# Altium schematic symbol library M.2 M-KEY底座与金手指.SCHLIB: 2 symbols
Pins are listed as number, name and electrical type; pins without a type are passive.

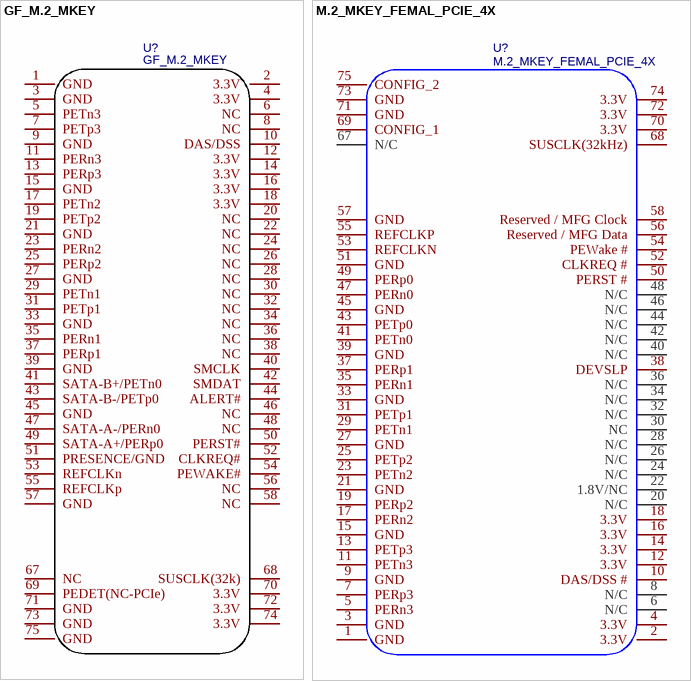
[diagram p0: symbols GF_M.2_MKEY to M.2_MKEY_FEMAL_PCIE_4X]

## GF_M.2_MKEY
designator U?
BOM_Manufacturer: SHOWNAME=F; Contributor: redgragon; BOM_Manufacturer Part: SHOWNAME=F; BOM_Supplier Part: SHOWNAME=F; BOM_Supplier: SHOWNAME=F; link: SHOWNAME=F; spicePre: U; spiceSymbolName: GF_M.2_MKEY
footprint GF_M.2_M_KEY
pins: 1 GND, 2 3.3V, 3 GND, 4 3.3V, 5 PETn3, 6 NC, 7 PETp3, 8 NC, 9 GND, 10 DAS/DSS, 11 PERn3, 12 3.3V, 13 PERp3, 14 3.3V, 15 GND, 16 3.3V, 17 PETn2, 18 3.3V, 19 PETp2, 20 NC, 21 GND, 22 NC, 23 PERn2, 24 NC, 25 PERp2, 26 NC, 27 GND, 28 NC, 29 PETn1, 30 NC, 31 PETp1, 32 NC, 33 GND, 34 NC, 35 PERn1, 36 NC, 37 PERp1, 38 NC, 39 GND, 40 SMCLK, 41 SATA-B+/PETn0, 42 SMDAT, 43 SATA-B-/PETp0, 44 ALERT#, 45 GND, 46 NC, 47 SATA-A-/PERn0, 48 NC, 49 SATA-A+/PERp0, 50 PERST#, 51 PRESENCE/GND, 52 CLKREQ#, 53 REFCLKn, 54 PEWAKE#, 55 REFCLKp, 56 NC, 57 GND, 58 NC, 67 NC, 68 SUSCLK(32k), 69 PEDET(NC-PCIe), 70 3.3V, 71 GND, 72 3.3V, 73 GND, 74 3.3V, 75 GND

## M.2_MKEY_FEMAL_PCIE_4X
designator U?
BOM_Manufacturer Part: M.2 M key fingers; Contributor: riverliu; BOM_Supplier Part: SHOWNAME=F; BOM_Supplier: SHOWNAME=F; spicePre: U; spiceSymbolName: M.2_MKEY_FEMAL_PCIE_4X
footprint M.2 母座 (%UTF8%MODELNAME=M.2 姣嶅骇)
footprint PCBComponent_1 - duplicate
pins: 1 GND, 2 3.3V, 3 GND, 4 3.3V, 5 PERn3, 6 N/C, 7 PERp3, 8 N/C, 9 GND, 10 DAS/DSS #, 11 PETn3, 12 3.3V, 13 PETp3, 14 3.3V, 15 GND, 16 3.3V, 17 PERn2, 18 3.3V, 19 PERp2, 20 N/C, 21 GND, 22 1.8V/NC, 23 PETn2, 24 N/C, 25 PETp2, 26 N/C, 27 GND, 28 N/C, 29 PETn1, 30 NC, 31 PETp1, 32 N/C, 33 GND, 34 N/C, 35 PERn1, 36 N/C, 37 PERp1, 38 DEVSLP, 39 GND, 40 N/C, 41 PETn0, 42 N/C, 43 PETp0, 44 N/C, 45 GND, 46 N/C, 47 PERn0, 48 N/C, 49 PERp0, 50 PERST #, 51 GND, 52 CLKREQ #, 53 REFCLKN, 54 PEWake #, 55 REFCLKP, 56 Reserved / MFG Data, 57 GND, 58 Reserved / MFG Clock, 67 N/C, 68 SUSCLK(32kHz), 69 CONFIG_1, 70 3.3V, 71 GND, 72 3.3V, 73 GND, 74 3.3V, 75 CONFIG_2